# Altium footprint library IC_SMD_DUAL.PCBLIB: 187 footprints (part 3 of 12)
Each footprint in its own frame and in the unit in brackets; x right, y up, seen from the top. Pads: shape width x height; smd on the part's side, far side on the other; paste and mask are expansions set on the pad; w line width, h text height; cw(c..) or ccw(c..) is an arc to the next point about the centre after c.
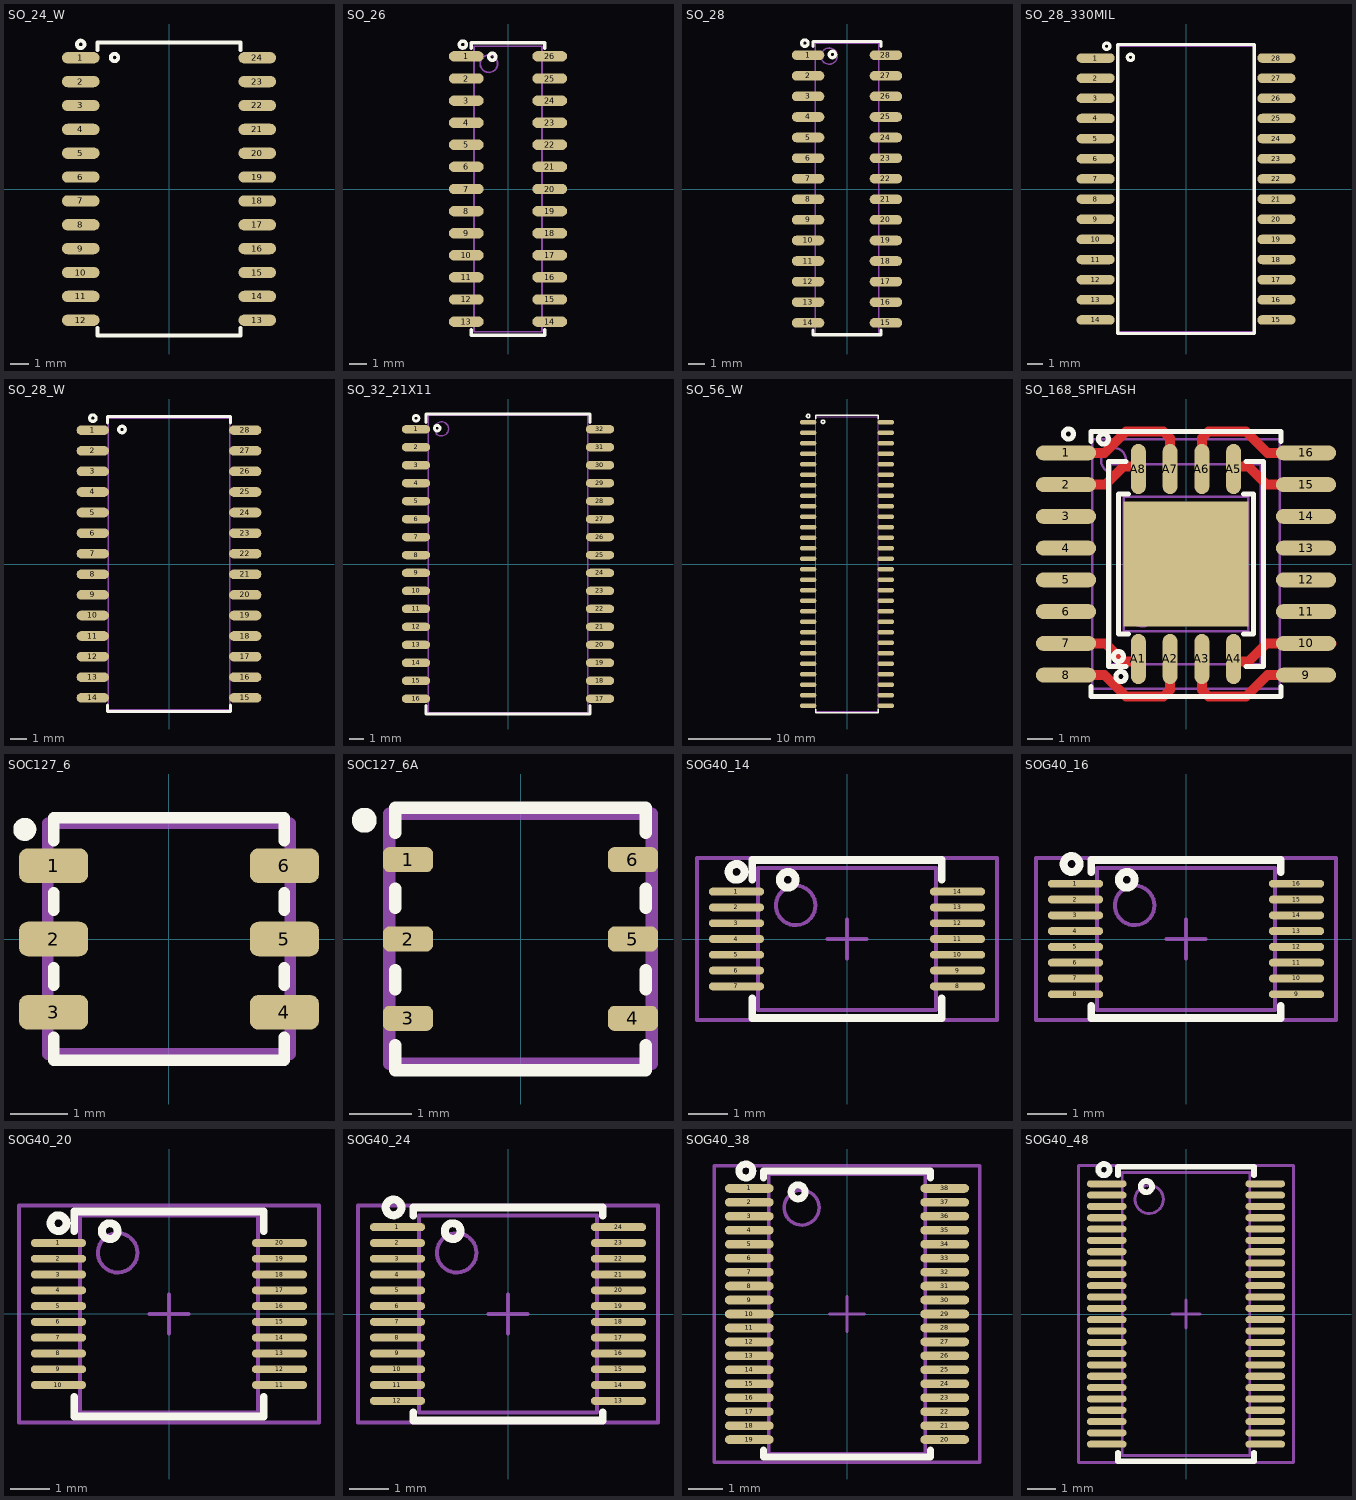
[diagram p2: the footprints below, top view; thin cyan lines are the x and y axes]

## SO_24_W [mm] "SOP, SOIC, 7.5mm width, 1.27mm pitch,"
pads (24):
  oval 2x0.6 smd: 1(-4.7,6.985) 2(-4.7,5.715) 3(-4.7,4.445) 4(-4.7,3.175) 5(-4.7,1.905) 6(-4.7,0.635) 7(-4.7,-0.635) 8(-4.7,-1.905) 9(-4.7,-3.175) 10(-4.7,-4.445) 11(-4.7,-5.715) 12(-4.7,-6.985) 13(4.7,-6.985) 14(4.7,-5.715) 15(4.7,-4.445) 16(4.7,-3.175) 17(4.7,-1.905) 18(4.7,-0.635) 19(4.7,0.635) 20(4.7,1.905) 21(4.7,3.175) 22(4.7,4.445) 23(4.7,5.715) 24(4.7,6.985)
TopOverlay:
  circle w0.2: c-4.7,7.7 r0.2
  circle w0.2: c-2.9,7 r0.2
  lines w0.2: -3.8,-7.4 -3.8,-7.8 3.8,-7.8 3.8,-7.4 ; -3.8,7.4 -3.8,7.8 3.8,7.8 3.8,7.4
3D body "SO_24WW.step": height 2.65, standoff 0, extent -5.15,-7.5 5.15,7.5

## SO_26 [mm] "SOP, SOIC, 3.9mm width, 1.27mm pitch,"
pads (26):
  oval 2x0.6 smd: 1(-2.4,7.62) 2(-2.4,6.35) 3(-2.4,5.08) 4(-2.4,3.81) 5(-2.4,2.54) 6(-2.4,1.27) 7(-2.4,0) 8(-2.4,-1.27) 9(-2.4,-2.54) 10(-2.4,-3.81) 11(-2.4,-5.08) 12(-2.4,-6.35) 13(-2.4,-7.62) 14(2.4,-7.62) 15(2.4,-6.35) 16(2.4,-5.08) 17(2.4,-3.81) 18(2.4,-2.54) 19(2.4,-1.27) 20(2.4,0) 21(2.4,1.27) 22(2.4,2.54) 23(2.4,3.81) 24(2.4,5.08) 25(2.4,6.35) 26(2.4,7.62)
TopOverlay:
  circle w0.2: c-0.9,7.6 r0.2
  circle w0.2: c-2.6,8.3 r0.2
  lines w0.2: -2.1,-8.1 -2.1,-8.4 2.1,-8.4 2.1,-8.1 ; -2.1,8.1 -2.1,8.4 2.1,8.4 2.1,8.1
Mechanical13:
  circle w0.1: c-1.1,7.2 r0.5
  lines w0.1: -1.95,-8.2 1.95,-8.2 1.95,8.2 -1.95,8.2 -1.95,-8.2
3D body "SO_26-.step": height 2, standoff 0, extent -3.1,-8.25 3.1,8.25

## SO_28 [mm] "SOP, SOIC, 3.9mm width, 1.27mm pitch,"
pads (28):
  oval 2x0.6 smd: 1(-2.4,8.255) 2(-2.4,6.985) 3(-2.4,5.715) 4(-2.4,4.445) 5(-2.4,3.175) 6(-2.4,1.905) 7(-2.4,0.635) 8(-2.4,-0.635) 9(-2.4,-1.905) 10(-2.4,-3.175) 11(-2.4,-4.445) 12(-2.4,-5.715) 13(-2.4,-6.985) 14(-2.4,-8.255) 15(2.4,-8.255) 16(2.4,-6.985) 17(2.4,-5.715) 18(2.4,-4.445) 19(2.4,-3.175) 20(2.4,-1.905) 21(2.4,-0.635) 22(2.4,0.635) 23(2.4,1.905) 24(2.4,3.175) 25(2.4,4.445) 26(2.4,5.715) 27(2.4,6.985) 28(2.4,8.255)
TopOverlay:
  circle w0.2: c-0.9,8.3 r0.2
  circle w0.2: c-2.6,9 r0.2
  lines w0.2: -2.1,-8.7 -2.1,-9 2.1,-9 2.1,-8.7 ; -2.1,8.8 -2.1,9.1 2.1,9.1 2.1,8.8
Mechanical13:
  circle w0.1: c-1.1,8.2 r0.5
  lines w0.1: -1.95,-9 1.95,-9 1.95,9 -1.95,9 -1.95,-9
3D body "SO_288.step": height 2, standoff 0, extent -3.1,-9 3.1,9

## SO_28_330MIL [mm] "SOP-28 330mil width, 18.50x8.50mm, Pitch 1.27mm"
height 2.2
pads (28):
  oval 2.4x0.6 smd: 1(-5.7,8.255) 2(-5.7,6.985) 3(-5.7,5.715) 4(-5.7,4.445) 5(-5.7,3.175) 6(-5.7,1.905) 7(-5.7,0.635) 8(-5.7,-0.635) 9(-5.7,-1.905) 10(-5.7,-3.175) 11(-5.7,-4.445) 12(-5.7,-5.715) 13(-5.7,-6.985) 14(-5.7,-8.255) 15(5.7,-8.255) 16(5.7,-6.985) 17(5.7,-5.715) 18(5.7,-4.445) 19(5.7,-3.175) 20(5.7,-1.905) 21(5.7,-0.635) 22(5.7,0.635) 23(5.7,1.905) 24(5.7,3.175) 25(5.7,4.445) 26(5.7,5.715) 27(5.7,6.985) 28(5.7,8.255)
TopOverlay:
  circle w0.2: c-3.5,8.3 r0.2
  circle w0.2: c-5,9 r0.2
  lines w0.2: -4.3,-9.1 -4.3,9.1 4.3,9.1 4.3,-9.1 -4.3,-9.1
Mechanical13:
  lines w0.1: -4.3,-9 -4.3,9 4.3,9 4.3,-9 -4.3,-9
3D body "SO_28_330MIL.step": height 3, standoff 0, extent -5.9,-9.25 5.9,9.25

## SO_28_W [mm] "SOP, SOIC, 7.5mm width, 1.27mm pitch,"
pads (28):
  oval 2x0.6 smd: 1(-4.7,8.255) 2(-4.7,6.985) 3(-4.7,5.715) 4(-4.7,4.445) 5(-4.7,3.175) 6(-4.7,1.905) 7(-4.7,0.635) 8(-4.7,-0.635) 9(-4.7,-1.905) 10(-4.7,-3.175) 11(-4.7,-4.445) 12(-4.7,-5.715) 13(-4.7,-6.985) 14(-4.7,-8.255) 15(4.7,-8.255) 16(4.7,-6.985) 17(4.7,-5.715) 18(4.7,-4.445) 19(4.7,-3.175) 20(4.7,-1.905) 21(4.7,-0.635) 22(4.7,0.635) 23(4.7,1.905) 24(4.7,3.175) 25(4.7,4.445) 26(4.7,5.715) 27(4.7,6.985) 28(4.7,8.255)
TopOverlay:
  circle w0.2: c-2.9,8.3 r0.2
  circle w0.2: c-4.7,9 r0.2
  lines w0.2: -3.8,-8.7 -3.8,-9.1 3.8,-9.1 3.8,-8.7 ; -3.8,8.7 -3.8,9.1 3.8,9.1 3.8,8.7
Mechanical13:
  lines w0.1: -3.75,-9 3.75,-9 3.75,9 -3.75,9 -3.75,-9
3D body "SOP28.stp": height 2.8, standoff 0, extent -5.1,-8.875 5.1,8.875

## SO_32_21X11 [mm]
height 2
pads (32):
  oval 2x0.6 smd: 1(-6.5,9.525) 2(-6.5,8.255) 3(-6.5,6.985) 4(-6.5,5.715) 5(-6.5,4.445) 6(-6.5,3.175) 7(-6.5,1.905) 8(-6.5,0.635) 9(-6.5,-0.635) 10(-6.5,-1.905) 11(-6.5,-3.175) 12(-6.5,-4.445) 13(-6.5,-5.715) 14(-6.5,-6.985) 15(-6.5,-8.255) 16(-6.5,-9.525) 17(6.5,-9.525) 18(6.5,-8.255) 19(6.5,-6.985) 20(6.5,-5.715) 21(6.5,-4.445) 22(6.5,-3.175) 23(6.5,-1.905) 24(6.5,-0.635) 25(6.5,0.635) 26(6.5,1.905) 27(6.5,3.175) 28(6.5,4.445) 29(6.5,5.715) 30(6.5,6.985) 31(6.5,8.255) 32(6.5,9.525)
TopOverlay:
  circle w0.2: c-6.5,10.3 r0.2
  circle w0.2: c-5,9.6 r0.2
  lines w0.2: -5.8,-10 -5.8,-10.6 5.8,-10.6 5.8,-10 ; -5.8,10 -5.8,10.6 5.8,10.6 5.8,10
Mechanical13:
  circle w0.1: c-4.7,9.55 r0.5
  lines w0.1: -5.65,-10.5 5.65,-10.5 5.65,10.5 -5.65,10.5 -5.65,-10.5
3D body "SO_32.step": height 2.6, standoff 0, extent -7.125,-10.5 7.125,10.5

## SO_56_W [mm] "SOP, SOIC, 7.5mm width, 1.27mm pitch,"
pads (56):
  oval 2x0.6 smd: 1(-4.7,17.145) 2(-4.7,15.875) 3(-4.7,14.605) 4(-4.7,13.335) 5(-4.7,12.065) 6(-4.7,10.795) 7(-4.7,9.525) 8(-4.7,8.255) 9(-4.7,6.985) 10(-4.7,5.715) 11(-4.7,4.445) 12(-4.7,3.175) 13(-4.7,1.905) 14(-4.7,0.635) 15(-4.7,-0.635) 16(-4.7,-1.905) 17(-4.7,-3.175) 18(-4.7,-4.445) 19(-4.7,-5.715) 20(-4.7,-6.985) 21(-4.7,-8.255) 22(-4.7,-9.525) 23(-4.7,-10.795) 24(-4.7,-12.065) 25(-4.7,-13.335) 26(-4.7,-14.605) 27(-4.7,-15.875) 28(-4.7,-17.145) 29(4.7,-17.145) 30(4.7,-15.875) 31(4.7,-14.605) 32(4.7,-13.335) 33(4.7,-12.065) 34(4.7,-10.795) 35(4.7,-9.525) 36(4.7,-8.255) 37(4.7,-6.985) 38(4.7,-5.715) 39(4.7,-4.445) 40(4.7,-3.175) 41(4.7,-1.905) 42(4.7,-0.635) 43(4.7,0.635) 44(4.7,1.905) 45(4.7,3.175) 46(4.7,4.445) 47(4.7,5.715) 48(4.7,6.985) 49(4.7,8.255) 50(4.7,9.525) 51(4.7,10.795) 52(4.7,12.065) 53(4.7,13.335) 54(4.7,14.605) 55(4.7,15.875) 56(4.7,17.145)
TopOverlay:
  circle w0.2: c-2.9,17.2 r0.2
  circle w0.2: c-4.7,17.9 r0.2
  lines w0.2: -3.8,-17.6 -3.8,-18 3.8,-18 3.8,-17.6 ; -3.8,17.6 -3.8,18 3.8,18 3.8,17.6
Mechanical13:
  lines w0.1: -3.75,-17.8 3.75,-17.8 3.75,17.8 -3.75,17.8 -3.75,-17.8
3D body "SO_56_WW.step": height 2.65, standoff 0, extent -5.15,-17.5 5.15,17.5

## SO_168_SPIFLASH [mm] "SPI FLASH, footpirnt for SOP8W+SON8W+SOP16W"
pads (25):
  oval 2.4x0.6 smd: 1(-4.8,4.445) 2(-4.8,3.175) 3(-4.8,1.905) 4(-4.8,0.635) 5(-4.8,-0.635) 6(-4.8,-1.905) 7(-4.8,-3.175) 8(-4.8,-4.445) 9(4.8,-4.445) 10(4.8,-3.175) 11(4.8,-1.905) 12(4.8,-0.635) 13(4.8,0.635) 14(4.8,1.905) 15(4.8,3.175) 16(4.8,4.445)
  oval 0.6x2 smd: A1(-1.905,-3.8) A2(-0.635,-3.8) A3(0.635,-3.8) A4(1.905,-3.8) A5(1.905,3.8) A6(0.635,3.8) A7(-0.635,3.8) A8(-1.905,3.8)
  rect 5x5 smd: ""(0,0)
TopLayer:
  lines w0.4: -4.8,-4.445 -3.255,-4.445 -2.4,-5.3 -0.9,-5.3 -0.635,-5.035 -0.635,-4 ; -4.8,-3.175 -3.225,-3.175 -2.5,-3.9 -1.905,-3.9 ; -4.8,3.175 -3.225,3.175 -2.5,3.9 -1.905,3.9 ; -4.8,4.445 -3.255,4.445 -2.4,5.3 -0.9,5.3 -0.635,5.035 -0.635,4 ; 0.635,-4 0.635,-5.035 0.9,-5.3 2.4,-5.3 3.255,-4.445 4.8,-4.445 ; 0.635,4 0.635,5.035 0.9,5.3 2.4,5.3 3.255,4.445 4.8,4.445 ; 1.905,-3.9 2.5,-3.9 3.225,-3.175 4.8,-3.175 5.825,-3.175 ; 1.905,3.9 2.5,3.9 3.225,3.175 4.8,3.175
TopOverlay:
  circle w0.2: c-2.6,-4.5 r0.2
  circle w0.2: c-2.7,-3.7 r0.2
  circle w0.2: c-4.7,5.2 r0.2
  circle w0.2: c-3.3,5 r0.2
  lines w0.2: -3.8,-4.9 -3.8,-5.3 3.8,-5.3 3.8,-4.9 ; -3.8,4.9 -3.8,5.3 3.8,5.3 3.8,4.9 ; -2.4,-4.1 -3.1,-4.1 -3.1,4.1 -2.4,4.1 ; -2.3,-2.8 -2.7,-2.8 -2.7,2.8 -2.3,2.8 ; 2.3,-2.8 2.7,-2.8 2.7,2.8 2.3,2.8 ; 2.4,-4.1 3.1,-4.1 3.1,4.1 2.4,4.1
Mechanical13:
  circle w0.1: c-1.75,-2 r0.5
  circle w0.1: c-2.9,4.15 r0.5
  lines w0.1: -3.75,-5 -3.75,5 3.75,5 3.75,-5 -3.75,-5 ; -3,-4 3,-4 3,4 -3,4 -3,-4 ; -2.5,-2.7 2.5,-2.7 2.5,2.7 -2.5,2.7 -2.5,-2.7
3D body "User Library-SOIC16_Wide_JEDEC_MS-013AA.step": height 2.62, standoff -0.03, extent -5.215,-5.25 5.415,5.25
3D body "User Library-SOIC8_Wide_5mmx5mm.step": height 1.75, standoff -0.01, extent -2.73,-4.051 2.73,4.05
3D body "User Library-WSON-8_6x8mm.STEP": height 0.81, standoff -0.07, extent -3,-4 3,4

## SOC127_6 [mm] "TSOC-6, 1.27mm pitch, 4x4mm"
height 0.4
pads (6):
  rrect50% 1.2x0.6 smd: 1(-2,1.27) 2(-2,0) 3(-2,-1.27) 4(2,-1.27) 5(2,0) 6(2,1.27)
TopOverlay:
  circle w0.2: c-2.5,1.9 r0.1
  lines w0.2: -2,-1.7 -2,-2.1 2,-2.1 2,-1.7 ; -2,-0.8 -2,-0.5 ; -2,0.5 -2,0.8 ; -2,1.7 -2,2.1 2,2.1 2,1.7 ; 2,-0.8 2,-0.5 ; 2,0.5 2,0.8
Mechanical13:
  lines w0.2: -2.1,-1.993 -2.1,2.007 2.1,2.007 2.1,-1.993 -2.1,-1.993
3D body "User Library-TSOC6.STEP": height 1.4, standoff 0, extent -2.1,-1.993 2.1,2.007

## SOC127_6A [mm] "TSOC-6, 1.27mm pitch, 4x4mm"
height 0.4
pads (6):
  rrect50% 0.8x0.4 smd: 1(-1.8,1.27) 2(-1.8,0) 3(-1.8,-1.27) 4(1.8,-1.27) 5(1.8,0) 6(1.8,1.27)
TopOverlay:
  circle w0.2: c-2.5,1.9 r0.1
  lines w0.2: -2,-1.7 -2,-2.1 2,-2.1 2,-1.7 ; -2,-0.8 -2,-0.5 ; -2,0.5 -2,0.8 ; -2,1.7 -2,2.1 2,2.1 2,1.7 ; 2,-0.8 2,-0.5 ; 2,0.5 2,0.8
Mechanical13:
  lines w0.2: -2.1,-1.993 -2.1,2.007 2.1,2.007 2.1,-1.993 -2.1,-1.993
3D body "User Library-TSOC6.STEP": height 1.4, standoff 0, extent -2.1,-1.993 2.1,2.007

## SOG40_14 [mm]
height 1.2
pads (14):
  oval 1.4x0.2 smd mask+0.05: 1(-2.8,1.2) 2(-2.8,0.8) 3(-2.8,0.4) 4(-2.8,0) 5(-2.8,-0.4) 6(-2.8,-0.8) 7(-2.8,-1.2) 8(2.8,-1.2) 9(2.8,-0.8) 10(2.8,-0.4) 11(2.8,0) 12(2.8,0.4) 13(2.8,0.8) 14(2.8,1.2)
TopOverlay:
  circle w0.2: c-2.8,1.7 r0.2
  circle w0.2: c-1.5,1.5 r0.2
  lines w0.2: -2.4,-1.5 -2.4,-2 2.4,-2 2.4,-1.5 ; -2.4,1.5 -2.4,2 2.4,2 2.4,1.5
Mechanical13:
  circle w0.1: c-1.3,0.85 r0.5
  lines w0.1: -2.25,-1.8 2.25,-1.8 2.25,1.8 -2.25,1.8 -2.25,-1.8
Mechanical15:
  lines w0.1: -0.5,0 0.5,0 ; 0,-0.5 0,0.5 ; -3.8,-2.05 3.8,-2.05 3.8,2.05 -3.8,2.05 -3.8,-2.05
3D body "SOP127P600-8N.step": height 1.2, standoff 0, extent -3.2,-1.8 3.2,1.8

## SOG40_16 [mm] "DGV TVSOP-16 0.4mm pitch"
height 1.2
pads (16):
  oval 1.4x0.2 smd mask+0.05: 1(-2.8,1.4) 2(-2.8,1) 3(-2.8,0.6) 4(-2.8,0.2) 5(-2.8,-0.2) 6(-2.8,-0.6) 7(-2.8,-1) 8(-2.8,-1.4) 9(2.8,-1.4) 10(2.8,-1) 11(2.8,-0.6) 12(2.8,-0.2) 13(2.8,0.2) 14(2.8,0.6) 15(2.8,1) 16(2.8,1.4)
TopOverlay:
  circle w0.2: c-1.5,1.5 r0.2
  circle w0.2: c-2.9,1.9 r0.2
  lines w0.2: -2.4,-1.7 -2.4,-2 2.4,-2 2.4,-1.7 ; -2.4,1.7 -2.4,2 2.4,2 2.4,1.7
Mechanical13:
  circle w0.1: c-1.3,0.85 r0.5
  lines w0.1: -2.25,-1.8 -2.25,1.8 2.25,1.8 2.25,-1.8 -2.25,-1.8
Mechanical15:
  lines w0.1: -0.5,0 0.5,0 ; 0,-0.5 0,0.5 ; -3.8,-2.05 -3.8,2.05 3.8,2.05 3.8,-2.05 -3.8,-2.05
3D body "TSSOP40P640X120-16N.step": height 1.2, standoff 0, extent -3.2,-1.85 3.2,1.85

## SOG40_20 [mm] "DGV"
height 1.2
pads (20):
  oval 1.4x0.2 smd mask+0.05: 1(-2.8,1.8) 2(-2.8,1.4) 3(-2.8,1) 4(-2.8,0.6) 5(-2.8,0.2) 6(-2.8,-0.2) 7(-2.8,-0.6) 8(-2.8,-1) 9(-2.8,-1.4) 10(-2.8,-1.8) 11(2.8,-1.8) 12(2.8,-1.4) 13(2.8,-1) 14(2.8,-0.6) 15(2.8,-0.2) 16(2.8,0.2) 17(2.8,0.6) 18(2.8,1) 19(2.8,1.4) 20(2.8,1.8)
TopOverlay:
  circle w0.2: c-1.5,2.1 r0.2
  circle w0.2: c-2.8,2.3 r0.2
  lines w0.2: -2.4,-2.1 -2.4,-2.6 2.4,-2.6 2.4,-2.1 ; -2.4,2.1 -2.4,2.6 2.4,2.6 2.4,2.1
Mechanical13:
  circle w0.1: c-1.3,1.55 r0.5
  lines w0.1: -2.25,-2.5 -2.25,2.5 2.25,2.5 2.25,-2.5 -2.25,-2.5
Mechanical15:
  lines w0.1: -0.5,0 0.5,0 ; 0,-0.5 0,0.5 ; -3.8,-2.75 -3.8,2.75 3.8,2.75 3.8,-2.75 -3.8,-2.75
3D body "DGV0020A.stp": height 1.13, standoff 0, extent -3.2,-2.5 3.2,2.5

## SOG40_24 [mm] "DGV"
height 1.2
pads (24):
  oval 1.4x0.2 smd mask+0.05: 1(-2.8,2.2) 2(-2.8,1.8) 3(-2.8,1.4) 4(-2.8,1) 5(-2.8,0.6) 6(-2.8,0.2) 7(-2.8,-0.2) 8(-2.8,-0.6) 9(-2.8,-1) 10(-2.8,-1.4) 11(-2.8,-1.8) 12(-2.8,-2.2) 13(2.8,-2.2) 14(2.8,-1.8) 15(2.8,-1.4) 16(2.8,-1) 17(2.8,-0.6) 18(2.8,-0.2) 19(2.8,0.2) 20(2.8,0.6) 21(2.8,1) 22(2.8,1.4) 23(2.8,1.8) 24(2.8,2.2)
TopOverlay:
  circle w0.2: c-2.9,2.7 r0.2
  circle w0.2: c-1.4,2.1 r0.2
  lines w0.2: -2.4,-2.5 -2.4,-2.7 2.4,-2.7 2.4,-2.5 ; -2.4,2.5 -2.4,2.7 2.4,2.7 2.4,2.5
Mechanical13:
  circle w0.1: c-1.3,1.55 r0.5
  lines w0.1: -2.25,-2.5 2.25,-2.5 2.25,2.5 -2.25,2.5 -2.25,-2.5
Mechanical15:
  lines w0.1: -0.5,0 0.5,0 ; 0,-0.5 0,0.5 ; -3.8,-2.75 3.8,-2.75 3.8,2.75 -3.8,2.75 -3.8,-2.75
3D body "DGV0024A.stp": height 1.13, standoff 0, extent -3.2,-2.5 3.2,2.5

## SOG40_38 [mm]
height 1.2
pads (38):
  oval 1.4x0.25 smd mask+0.05: 1(-2.8,3.6) 2(-2.8,3.2) 3(-2.8,2.8) 4(-2.8,2.4) 5(-2.8,2) 6(-2.8,1.6) 7(-2.8,1.2) 8(-2.8,0.8) 9(-2.8,0.4) 10(-2.8,0) 11(-2.8,-0.4) 12(-2.8,-0.8) 13(-2.8,-1.2) 14(-2.8,-1.6) 15(-2.8,-2) 16(-2.8,-2.4) 17(-2.8,-2.8) 18(-2.8,-3.2) 19(-2.8,-3.6) 20(2.8,-3.6) 21(2.8,-3.2) 22(2.8,-2.8) 23(2.8,-2.4) 24(2.8,-2) 25(2.8,-1.6) 26(2.8,-1.2) 27(2.8,-0.8) 28(2.8,-0.4) 29(2.8,0) 30(2.8,0.4) 31(2.8,0.8) 32(2.8,1.2) 33(2.8,1.6) 34(2.8,2) 35(2.8,2.4) 36(2.8,2.8) 37(2.8,3.2) 38(2.8,3.6)
TopOverlay:
  circle w0.2: c-2.9,4.1 r0.2
  circle w0.2: c-1.4,3.5 r0.2
  lines w0.2: -2.4,-3.9 -2.4,-4.1 2.4,-4.1 2.4,-3.9 ; -2.4,3.9 -2.4,4.1 2.4,4.1 2.4,3.9
Mechanical13:
  circle w0.1: c-1.3,3.05 r0.5
  lines w0.1: -2.25,-4 -2.25,4 2.25,4 2.25,-4 -2.25,-4
Mechanical15:
  lines w0.1: -0.5,0 0.5,0 ; 0,-0.5 0,0.5 ; -3.8,-4.25 -3.8,4.25 3.8,4.25 3.8,-4.25 -3.8,-4.25
3D body: height 1.2, standoff 0.05, extent -2.25,-4 2.25,4

## SOG40_48 [mm]
height 1.2
pads (48):
  oval 1.4x0.25 smd mask+0.05: 1(-2.8,4.6) 2(-2.8,4.2) 3(-2.8,3.8) 4(-2.8,3.4) 5(-2.8,3) 6(-2.8,2.6) 7(-2.8,2.2) 8(-2.8,1.8) 9(-2.8,1.4) 10(-2.8,1) 11(-2.8,0.6) 12(-2.8,0.2) 13(-2.8,-0.2) 14(-2.8,-0.6) 15(-2.8,-1) 16(-2.8,-1.4) 17(-2.8,-1.8) 18(-2.8,-2.2) 19(-2.8,-2.6) 20(-2.8,-3) 21(-2.8,-3.4) 22(-2.8,-3.8) 23(-2.8,-4.2) 24(-2.8,-4.6) 25(2.8,-4.6) 26(2.8,-4.2) 27(2.8,-3.8) 28(2.8,-3.4) 29(2.8,-3) 30(2.8,-2.6) 31(2.8,-2.2) 32(2.8,-1.8) 33(2.8,-1.4) 34(2.8,-1) 35(2.8,-0.6) 36(2.8,-0.2) 37(2.8,0.2) 38(2.8,0.6) 39(2.8,1) 40(2.8,1.4) 41(2.8,1.8) 42(2.8,2.2) 43(2.8,2.6) 44(2.8,3) 45(2.8,3.4) 46(2.8,3.8) 47(2.8,4.2) 48(2.8,4.6)
TopOverlay:
  circle w0.2: c-2.9,5.1 r0.2
  circle w0.2: c-1.4,4.5 r0.2
  lines w0.2: -2.4,-4.9 -2.4,-5.2 2.4,-5.2 2.4,-4.9 ; -2.4,4.9 -2.4,5.2 2.4,5.2 2.4,4.9
Mechanical13:
  circle w0.1: c-1.3,4.05 r0.5
  lines w0.1: -2.25,-5 2.25,-5 2.25,5 -2.25,5 -2.25,-5
Mechanical15:
  lines w0.1: -0.5,0 0.5,0 ; 0,-0.5 0,0.5 ; -3.8,-5.25 3.8,-5.25 3.8,5.25 -3.8,5.25 -3.8,-5.25
3D body "SOP127P600-8N.step": height 1.1, standoff 0, extent -3.2,-4.9 3.2,4.9